# Altium schematic symbol library Molex Microfit 3.0 2x2.SchLib: 1 symbol
Pins are listed as number, name and electrical type; pins without a type are passive.

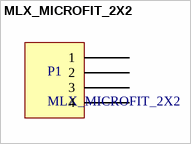
[diagram p0: symbol MLX_MICROFIT_2X2]

## MLX_MICROFIT_2X2
designator P1
footprint MLX_MICROFIT_2X2
pins: 1, 2, 3, 4